# EAGLE library part TK1_GPIO_3X25 (library Parts)
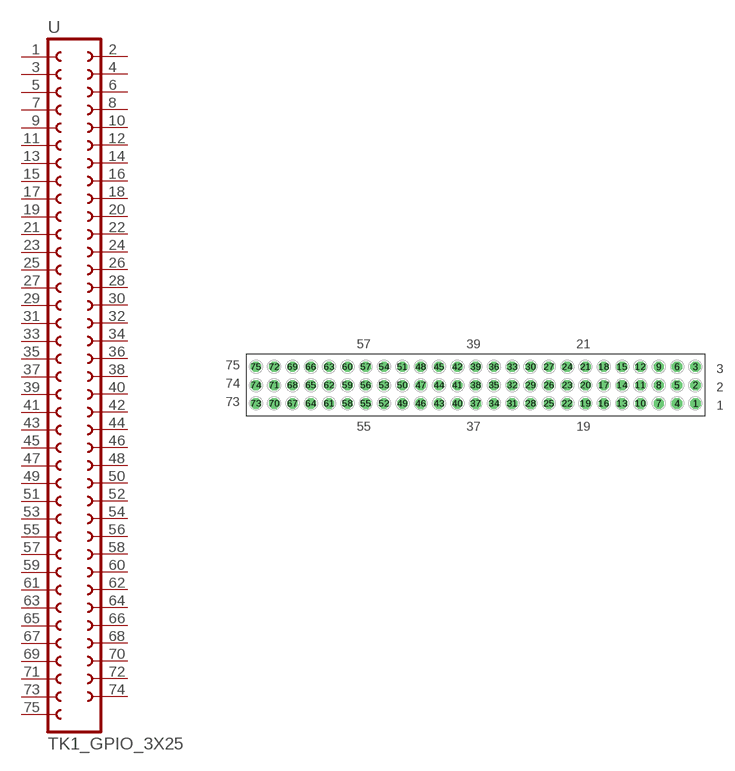
[diagram p1: symbol with the pads of TK1_GPIO_3X25; footprint TK1_GPIO_3X25]

Designator prefix -

## TK1_GPIO_3X25  [TK1_GPIO_3X25]
1  1  pas
2  2
3  3  pas
4  4
5  5
6  6  pas
7  7
8  8
9  9  pas
10  10  pas
11  11
12  12
13  13  out
14  14  pas
15  15  out
16  16  out
17  17  out
18  18  pas
19  19  pas
20  20  out
21  21  out
22  22  pas
23  23  pas
24  24  out
25  25  pas
26  26  pas
27  27  pas
28  28  pas
29  29  pas
30  30  out
31  31
32  32  pas
33  33
34  34  pas
35  35
36  36  pas
37  37  pas
38  38  pas
39  39  out
40  40
41  41
42  42  out
43  43
44  44  out
45  45  pas
46  46
47  47  pas
48  48  out
49  49
50  50
51  51  out
52  52
53  53
54  54  pas
55  55
56  56
57  57
58  58
59  59
60  60
61  61
62  62  pas
63  63
64  64
65  65  out
66  66
67  67
68  68
69  69
70  70
71  71  out
72  72  nc
73  73  pas
74  74
75  75  nc

## Footprint TK1_GPIO_3X25 (pad centres in mm)
FEMALE HEADER
drill 0.914 octagon: 1 30.48,-2.54; 2 30.48,0; 3 30.48,2.54; 4 27.94,-2.54; 5 27.94,0; 6 27.94,2.54; 7 25.4,-2.54; 8 25.4,0; 9 25.4,2.54; 10 22.86,-2.54; 11 22.86,0; 12 22.86,2.54; 13 20.32,-2.54; 14 20.32,0; 15 20.32,2.54; 16 17.78,-2.54; 17 17.78,0; 18 17.78,2.54; 19 15.24,-2.54; 20 15.24,0; 21 15.24,2.54; 22 12.7,-2.54; 23 12.7,0; 24 12.7,2.54; 25 10.16,-2.54; 26 10.16,0; 27 10.16,2.54; 28 7.62,-2.54; 29 7.62,0; 30 7.62,2.54; 31 5.08,-2.54; 32 5.08,0; 33 5.08,2.54; 34 2.54,-2.54; 35 2.54,0; 36 2.54,2.54; 37 0,-2.54; 38 0,0; 39 0,2.54; 40 -2.54,-2.54; 41 -2.54,0; 42 -2.54,2.54; 43 -5.08,-2.54; 44 -5.08,0; 45 -5.08,2.54; 46 -7.62,-2.54; 47 -7.62,0; 48 -7.62,2.54; 49 -10.16,-2.54; 50 -10.16,0; 51 -10.16,2.54; 52 -12.7,-2.54; 53 -12.7,0; 54 -12.7,2.54; 55 -15.24,-2.54; 56 -15.24,0; 57 -15.24,2.54; 58 -17.78,-2.54; 59 -17.78,0; 60 -17.78,2.54; 61 -20.32,-2.54; 62 -20.32,0; 63 -20.32,2.54; 64 -22.86,-2.54; 65 -22.86,0; 66 -22.86,2.54; 67 -25.4,-2.54; 68 -25.4,0; 69 -25.4,2.54; 70 -27.94,-2.54; 71 -27.94,0; 72 -27.94,2.54; 73 -30.48,-2.54; 74 -30.48,0; 75 -30.48,2.54